# Altium footprint library Tomra_Altium_Footprints.PcbLib: 43 footprints (part 2 of 3)
Each footprint in its own frame and in the unit in brackets; x right, y up, seen from the top. Pads: shape width x height; smd on the part's side, far side on the other; paste and mask are expansions set on the pad; w line width, h text height; cw(c..) or ccw(c..) is an arc to the next point about the centre after c.
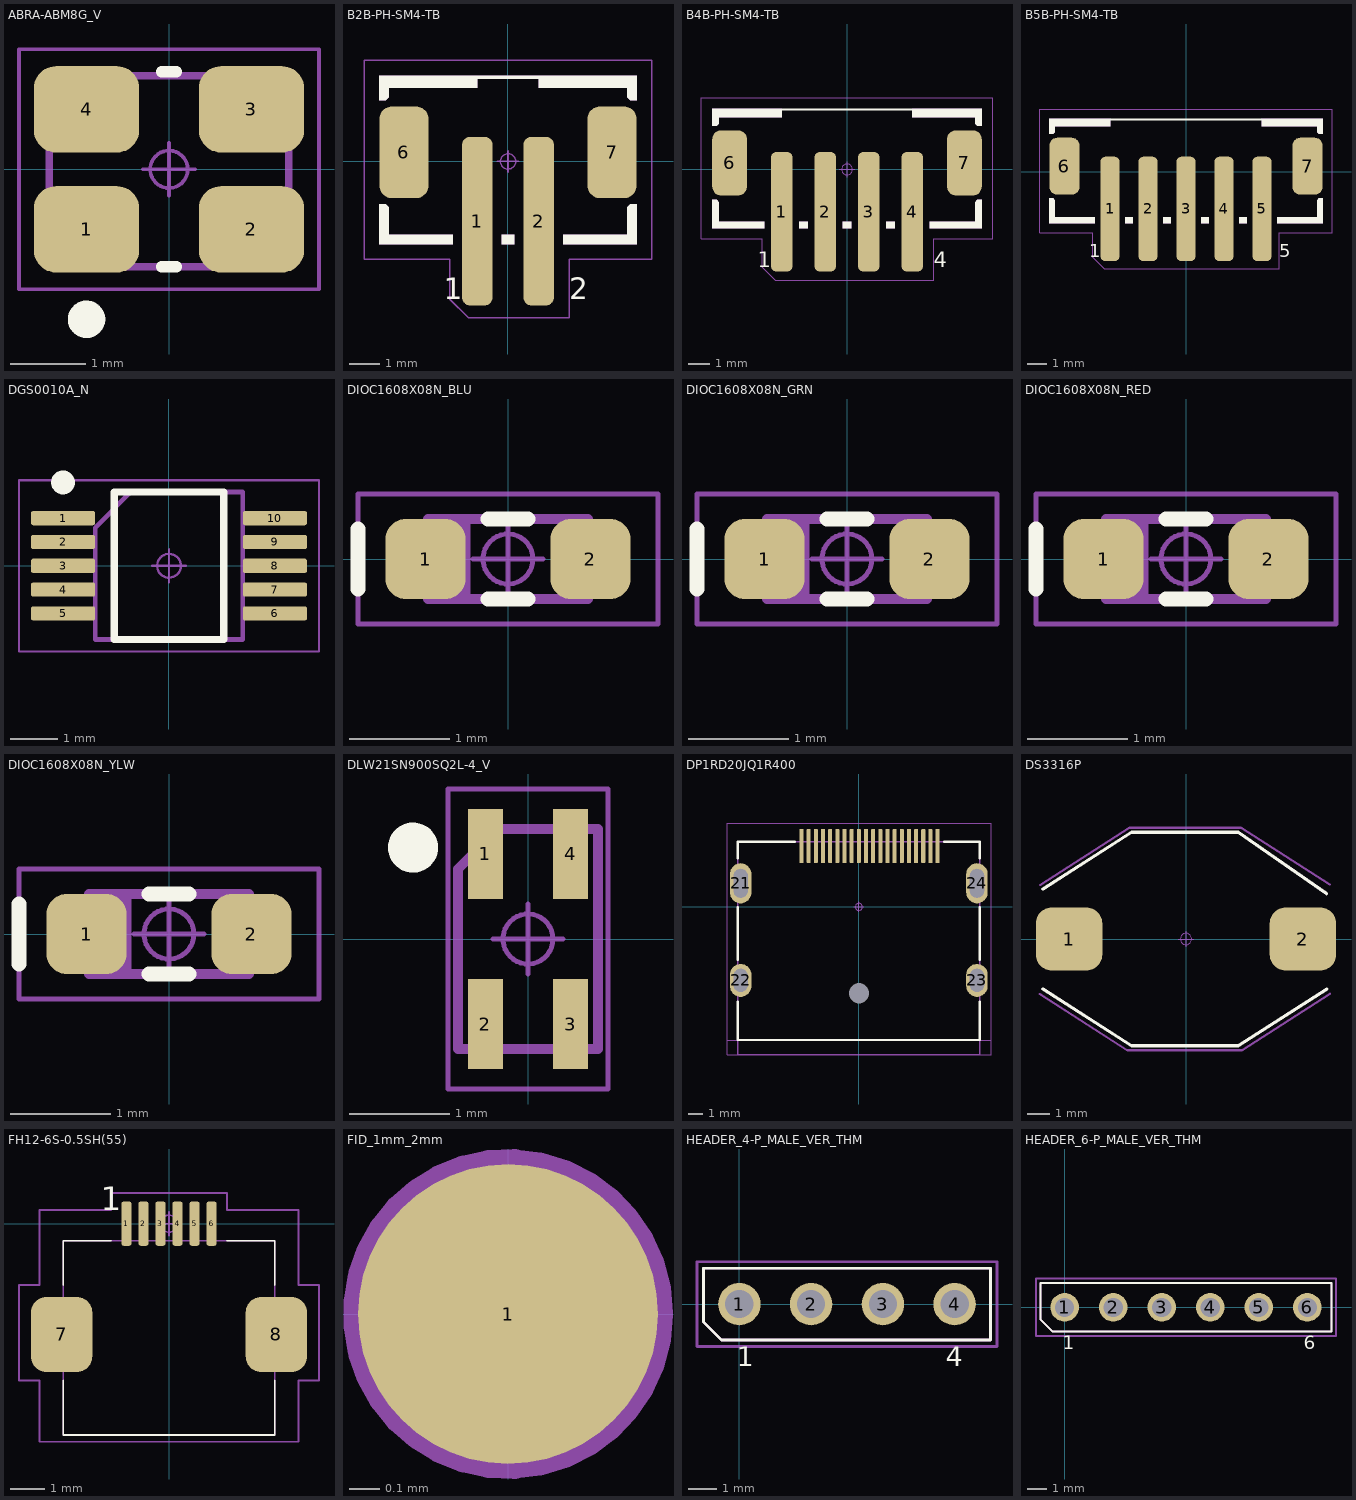
[diagram p1: the footprints below, top view; thin cyan lines are the x and y axes]

## ABRA-ABM8G_V [mm] "SMD, 4-Leads, Body 2.5x3.2mm"
height 0.8
pads (4):
  rrect50% 1.4x1.15 smd: 1(-1.1,-0.8) 2(1.1,-0.8) 3(1.1,0.8) 4(-1.1,0.8)
Top Overlay:
  circle w0.25: c-1.1,-2 r0.125
  lines w0.15: -0.1,-1.3 0.1,-1.3 ; -0.1,1.3 0.1,1.3
Mechanical 13:
  lines w0.1: -1.6,-0.5 -1.6,1.25 1.6,1.25 1.6,-1.3 -0.8,-1.3 -1.6,-0.5
  text ".Designator" at -3.4,-0.6 h1.5
Mechanical 15:
  circle w0.05: c0,0 r0.25
  lines w0.05: -0.35,0 0.35,0 ; 0,-0.35 0,0.35 ; -2,-1.6 -2,1.6 2,1.6 2,-1.6 -2,-1.6
3D body "ABM8G.STEP": height 0.99, standoff 0, extent -1.6,-1.245 1.6,1.244

## B2B-PH-SM4-TB [mm] "JST KR-Series, Vertical, 2-pin, 2mm pitch"
height 7
pads (4):
  rrect50% 1x5.5 smd: 1(-1,-1.95) 2(1,-1.95)
  rrect50% 1.6x3 smd: 6(-3.4,0.3) 7(3.4,0.3)
Top Overlay:
  region: 4.2,-1.4 4,-1.4 3.9,-1.5 3.9,-2.4 1.8,-2.4 1.8,-2.7 4.2,-2.7
  region: 1,2.8 4.2,2.8 4.2,2 4,2 3.9,2.1 3.9,2.4 1,2.4
  region: -1,2.8 -4.2,2.8 -4.2,2 -4,2 -3.9,2.1 -3.9,2.4 -1,2.4
  region: -0.2,-2.4 0.2,-2.4 0.2,-2.7 -0.2,-2.7
  region: -4.2,-1.4 -4,-1.4 -3.9,-1.5 -3.9,-2.4 -1.8,-2.4 -1.8,-2.7 -4.2,-2.7
  lines w0.1: -1,2.75 1.5,2.75
  text "1" at -2.1,-4.5 h0.7
  text "2" at 2,-4.5 h0.7
Mechanical 13:
  region: 1,2.8 4.2,2.8 4.2,2 4,2 3.9,2.1 3.9,2.4 1,2.4
  region: 4.2,-1.4 4,-1.4 3.9,-1.5 3.9,-2.4 1.8,-2.4 1.8,-2.7 4.2,-2.7
  region: -1,2.8 -4.2,2.8 -4.2,2 -4,2 -3.9,2.1 -3.9,2.4 -1,2.4
  region: -4.2,-1.4 -4,-1.4 -3.9,-1.5 -3.9,-2.4 -1.8,-2.4 -1.8,-2.7 -4.2,-2.7
  region: -0.2,-2.4 0.2,-2.4 0.2,-2.7 -0.2,-2.7
  lines w0.05: -1,2.775 1.2,2.775
  text ".Designator" at -3.4,-0.6 h1.5
  text "1" at -2.1,-4.5 h0.7
  text "2" at 2,-4.5 h0.7
Mechanical 15:
  circle w0.05: c0,0 r0.25
  lines w0.05: -0.35,0 0.35,0 ; 0,-0.35 0,0.35 ; -4.7,-3.2 -4.7,3.3 4.7,3.3 4.7,-3.2 2,-3.2 2,-5.1 -1.3,-5.1 -1.9,-4.5 -1.9,-3.2 -4.7,-3.2
3D body "B2B-PH-SM4-TB.STEP": height 6.6, standoff 0, extent -4,-4.275 3.95,2.725

## B4B-PH-SM4-TB [mm] "JST KR-Series, Vertical, 4-pin, 2mm pitch"
height 7
pads (6):
  rrect50% 1x5.5 smd: 1(-3,-1.95) 2(-1,-1.95) 3(1,-1.95) 4(3,-1.95)
  rrect50% 1.6x3 smd: 6(-5.4,0.3) 7(5.4,0.3)
Top Overlay:
  region: 1.8,-2.4 2.2,-2.4 2.2,-2.7 1.8,-2.7
  region: 6.2,-1.4 6,-1.4 5.9,-1.5 5.9,-2.4 3.8,-2.4 3.8,-2.7 6.2,-2.7
  region: 3,2.8 6.2,2.8 6.2,2 6,2 5.9,2.1 5.9,2.4 3,2.4
  region: -3,2.8 -6.2,2.8 -6.2,2 -6,2 -5.9,2.1 -5.9,2.4 -3,2.4
  region: -2.2,-2.4 -1.8,-2.4 -1.8,-2.7 -2.2,-2.7
  region: -6.2,-1.4 -6,-1.4 -5.9,-1.5 -5.9,-2.4 -3.8,-2.4 -3.8,-2.7 -6.2,-2.7
  region: -0.2,-2.4 0.2,-2.4 0.2,-2.7 -0.2,-2.7
  lines w0.1: -3,2.75 3.5,2.75
  text "1" at -4.1,-4.5 h0.7
  text "4" at 4,-4.5 h0.7
Mechanical 13:
  region: 3,2.8 6.2,2.8 6.2,2 6,2 5.9,2.1 5.9,2.4 3,2.4
  region: 6.2,-1.4 6,-1.4 5.9,-1.5 5.9,-2.4 3.8,-2.4 3.8,-2.7 6.2,-2.7
  region: -3,2.8 -6.2,2.8 -6.2,2 -6,2 -5.9,2.1 -5.9,2.4 -3,2.4
  region: -6.2,-1.4 -6,-1.4 -5.9,-1.5 -5.9,-2.4 -3.8,-2.4 -3.8,-2.7 -6.2,-2.7
  region: 1.8,-2.4 2.2,-2.4 2.2,-2.7 1.8,-2.7
  region: -0.2,-2.4 0.2,-2.4 0.2,-2.7 -0.2,-2.7
  region: -2.2,-2.4 -1.8,-2.4 -1.8,-2.7 -2.2,-2.7
  lines w0.05: -3,2.775 3.2,2.775
  text ".Designator" at -3.4,-0.6 h1.5
  text "1" at -4.1,-4.5 h0.7
  text "4" at 4,-4.5 h0.7
Mechanical 15:
  circle w0.05: c0,0 r0.25
  lines w0.05: -0.35,0 0.35,0 ; 0,-0.35 0,0.35 ; -6.7,-3.2 -6.7,3.3 6.7,3.3 6.7,-3.2 4,-3.2 4,-5.1 -3.3,-5.1 -3.9,-4.5 -3.9,-3.2 -6.7,-3.2
3D body "B4B-PH-SM4-TB.STEP": height 6.6, standoff 0, extent -5.95,-4.3 6,2.7

## B5B-PH-SM4-TB [mm] "JST KR-Series, Vertical, 5-pin, 2mm pitch"
height 7
pads (7):
  rrect50% 1x5.5 smd: 1(-4,-1.95) 2(-2,-1.95) 3(0,-1.95) 4(2,-1.95) 5(4,-1.95)
  rrect50% 1.6x3 smd: 6(-6.4,0.3) 7(6.4,0.3)
Top Overlay:
  region: 0.8,-2.4 1.2,-2.4 1.2,-2.7 0.8,-2.7
  region: 7.2,-1.4 7,-1.4 6.9,-1.5 6.9,-2.4 4.8,-2.4 4.8,-2.7 7.2,-2.7
  region: 4,2.8 7.2,2.8 7.2,2 7,2 6.9,2.1 6.9,2.4 4,2.4
  region: 2.8,-2.4 3.2,-2.4 3.2,-2.7 2.8,-2.7
  region: -4,2.8 -7.2,2.8 -7.2,2 -7,2 -6.9,2.1 -6.9,2.4 -4,2.4
  region: -3.2,-2.4 -2.8,-2.4 -2.8,-2.7 -3.2,-2.7
  region: -7.2,-1.4 -7,-1.4 -6.9,-1.5 -6.9,-2.4 -4.8,-2.4 -4.8,-2.7 -7.2,-2.7
  region: -1.2,-2.4 -0.8,-2.4 -0.8,-2.7 -1.2,-2.7
  lines w0.1: -4,2.75 6.9,2.75
  text "5" at 4.9,-4.5 h0.7
  text "1" at -5.1,-4.5 h0.7
Mechanical 13:
  region: 4,2.8 7.2,2.8 7.2,2 7,2 6.9,2.1 6.9,2.4 4,2.4
  region: 7.2,-1.4 7,-1.4 6.9,-1.5 6.9,-2.4 4.8,-2.4 4.8,-2.7 7.2,-2.7
  region: -4,2.8 -7.2,2.8 -7.2,2 -7,2 -6.9,2.1 -6.9,2.4 -4,2.4
  region: -7.2,-1.4 -7,-1.4 -6.9,-1.5 -6.9,-2.4 -4.8,-2.4 -4.8,-2.7 -7.2,-2.7
  region: 2.8,-2.4 3.2,-2.4 3.2,-2.7 2.8,-2.7
  region: 0.8,-2.4 1.2,-2.4 1.2,-2.7 0.8,-2.7
  region: -1.2,-2.4 -0.8,-2.4 -0.8,-2.7 -1.2,-2.7
  region: -3.2,-2.4 -2.8,-2.4 -2.8,-2.7 -3.2,-2.7
  lines w0.05: -4,2.775 6.9,2.775
  text "5" at 4.9,-4.5 h0.7
  text "1" at -5.1,-4.5 h0.7
  text ".Designator" at -3.4,-0.6 h1.5
Mechanical 15:
  circle w0.05: c0,0 r0.25
  lines w0.05: -0.35,0 0.35,0 ; 0,-0.35 0,0.35 ; -7.7,-3.2 -7.7,3.3 7.7,3.3 7.7,-3.2 4.9,-3.2 4.9,-5.1 -4.3,-5.1 -4.9,-4.5 -4.9,-3.2 -7.7,-3.2
3D body "B5B-PH-SM4-TB.STEP": height 6.6, standoff 0, extent -6.95,-4.275 7,2.725

## DGS0010A_N [mm] "SOP, 10-Leads, Body 3.1x3.1mm, Pitch 0.5mm, IPC Medium Density"
height 1.1
pads (10):
  rrect33% 1.35x0.3 smd: 1(-2.225,1) 2(-2.225,0.5) 3(-2.225,0) 4(-2.225,-0.5) 5(-2.225,-1) 6(2.225,-1) 7(2.225,-0.5) 8(2.225,0) 9(2.225,0.5) 10(2.225,1)
Top Overlay:
  circle w0.25: c-2.225,1.75 r0.125
  lines w0.15: -1.15,-1.55 1.15,-1.55 1.15,1.55 -1.15,1.55 -1.15,-1.55
Mechanical 13:
  lines w0.1: -1.55,-1.55 1.55,-1.55 1.55,1.55 -0.8,1.55 -1.55,0.8 -1.55,-1.55
  text ".Designator" at -3.4,-0.6 h1.5
Mechanical 15:
  circle w0.05: c0,0 r0.25
  lines w0.05: -0.35,0 0.35,0 ; 0,-0.35 0,0.35 ; -3.15,-1.8 3.15,-1.8 3.15,1.8 -3.15,1.8 -3.15,-1.8
3D body "DGS0010AakaMUB10A.stp": height 0.94, standoff -0.02, extent -2.451,-1.499 2.451,1.499

## DIOC1608X08N_BLU [mm] "Chip Diode, 2-Leads, Body 1.60x0.80mm, IPC Medium Density"
height 0.8
pads (2):
  rrect50% 0.8x0.8 smd: 1(-0.825,0) 2(0.825,0)
Top Overlay:
  lines w0.15: -1.5,-0.3 -1.5,0.3 ; -0.2,-0.4 0.2,-0.4 ; -0.2,0.4 0.2,0.4
Mechanical 13:
  region: -0.6,0
  region: -0.6,-0.75
  region: -0.8,-0.4 -0.375,-0.4 -0.375,0.4 -0.8,0.4
  lines w0.1: -0.6,-0.4 -0.6,0.4 ; -0.8,-0.4 -0.8,0.4 ; -0.8,-0.4 0.8,-0.4 0.8,0.4 -0.8,0.4 ; -0.8,-0.4 -0.8,0.4
  text ".Designator" at -3.4,-0.6 h1.5
Mechanical 15:
  circle w0.05: c0,0 r0.25
  lines w0.05: -0.35,0 0.35,0 ; 0,-0.35 0,0.35 ; -1.5,-0.65 1.5,-0.65 1.5,0.65 -1.5,0.65 -1.5,-0.65
3D body "User Library-led_0603 (3).step": height 0.6, standoff 0, extent -0.81,-0.4 0.81,0.4

## DIOC1608X08N_GRN [mm] "Chip Diode, 2-Leads, Body 1.60x0.80mm, IPC Medium Density"
height 0.8
pads (2):
  rrect50% 0.8x0.8 smd: 1(-0.825,0) 2(0.825,0)
Top Overlay:
  lines w0.15: -1.5,-0.3 -1.5,0.3 ; -0.2,-0.4 0.2,-0.4 ; -0.2,0.4 0.2,0.4
Mechanical 13:
  region: -0.6,0
  region: -0.6,-0.75
  region: -0.8,-0.4 -0.375,-0.4 -0.375,0.4 -0.8,0.4
  lines w0.1: -0.6,-0.4 -0.6,0.4 ; -0.8,-0.4 -0.8,0.4 ; -0.8,-0.4 0.8,-0.4 0.8,0.4 -0.8,0.4 ; -0.8,-0.4 -0.8,0.4
  text ".Designator" at -3.4,-0.6 h1.5
Mechanical 15:
  circle w0.05: c0,0 r0.25
  lines w0.05: -0.35,0 0.35,0 ; 0,-0.35 0,0.35 ; -1.5,-0.65 1.5,-0.65 1.5,0.65 -1.5,0.65 -1.5,-0.65
3D body "User Library-led_0603 (1).step": height 0.6, standoff 0, extent -0.81,-0.4 0.81,0.4

## DIOC1608X08N_RED [mm] "Chip Diode, 2-Leads, Body 1.60x0.80mm, IPC Medium Density"
height 0.8
pads (2):
  rrect50% 0.8x0.8 smd: 1(-0.825,0) 2(0.825,0)
Top Overlay:
  lines w0.15: -1.5,-0.3 -1.5,0.3 ; -0.2,-0.4 0.2,-0.4 ; -0.2,0.4 0.2,0.4
Mechanical 13:
  region: -0.6,0
  region: -0.6,-0.75
  region: -0.8,-0.4 -0.375,-0.4 -0.375,0.4 -0.8,0.4
  lines w0.1: -0.6,-0.4 -0.6,0.4 ; -0.8,-0.4 -0.8,0.4 ; -0.8,-0.4 0.8,-0.4 0.8,0.4 -0.8,0.4 ; -0.8,-0.4 -0.8,0.4
  text ".Designator" at -3.4,-0.6 h1.5
Mechanical 15:
  circle w0.05: c0,0 r0.25
  lines w0.05: -0.35,0 0.35,0 ; 0,-0.35 0,0.35 ; -1.5,-0.65 1.5,-0.65 1.5,0.65 -1.5,0.65 -1.5,-0.65
3D body "User Library-led_0603 (2).step": height 0.6, standoff 0, extent -0.81,-0.4 0.81,0.4

## DIOC1608X08N_YLW [mm] "Chip Diode, 2-Leads, Body 1.60x0.80mm, IPC Medium Density"
height 0.8
pads (2):
  rrect50% 0.8x0.8 smd: 1(-0.825,0) 2(0.825,0)
Top Overlay:
  lines w0.15: -1.5,-0.3 -1.5,0.3 ; -0.2,-0.4 0.2,-0.4 ; -0.2,0.4 0.2,0.4
Mechanical 13:
  region: -0.6,0
  region: -0.6,-0.75
  region: -0.8,-0.4 -0.375,-0.4 -0.375,0.4 -0.8,0.4
  lines w0.1: -0.6,-0.4 -0.6,0.4 ; -0.8,-0.4 -0.8,0.4 ; -0.8,-0.4 0.8,-0.4 0.8,0.4 -0.8,0.4 ; -0.8,-0.4 -0.8,0.4
  text ".Designator" at -3.4,-0.6 h1.5
Mechanical 15:
  circle w0.05: c0,0 r0.25
  lines w0.05: -0.35,0 0.35,0 ; 0,-0.35 0,0.35 ; -1.5,-0.65 1.5,-0.65 1.5,0.65 -1.5,0.65 -1.5,-0.65
3D body "User Library-led_0603.step": height 0.6, standoff 0, extent -0.81,-0.4 0.81,0.4

## DLW21SN900SQ2L-4_V [mm] "SMD, 4-Leads, Body 2.2x1.4mm"
height 1.4
pads (4):
  rect 0.35x0.9 smd: 1(-0.425,0.85) 2(-0.425,-0.85) 3(0.425,-0.85) 4(0.425,0.85)
Top Overlay:
  circle w0.25: c-1.15,0.914 r0.125
Mechanical 13:
  lines w0.1: -0.7,-1.1 0.7,-1.1 0.7,1.1 -0.3,1.1 -0.7,0.7 -0.7,-1.1
  text ".Designator" at 0.65,-3.3 h1.5
Mechanical 15:
  circle w0.05: c0,0 r0.25
  lines w0.05: -0.35,0 0.35,0 ; 0,-0.35 0,0.35 ; -0.8,-1.5 -0.8,1.5 0.8,1.5 0.8,-1.5 -0.8,-1.5
3D body: height 1.4, standoff 0, extent -0.7,-1.1 0.7,1.1

## DP1RD20JQ1R400 [mm] "20-P DISPLAYPORT"
height 6.2
pads (25):
  rrect50% 0.28x2.4 smd: 1(5.5,4.25) 2(5,4.25) 3(4.5,4.25) 4(4,4.25) 5(3.5,4.25) 6(3,4.25) 7(2.5,4.25) 8(2,4.25) 9(1.5,4.25) 10(1,4.25) 11(0.5,4.25) 12(0,4.25) 13(-0.5,4.25) 14(-1,4.25) 15(-1.5,4.25) 16(-2,4.25) 17(-2.5,4.25) 18(-3,4.25) 19(-3.5,4.25) 20(-4,4.25)
  oval 1.5x2.8 hole 1 slot 2 at 90 deg: 21(-8.25,1.65) 24(8.25,1.65)
  oval 1.5x2.3 hole 1 slot 1.6 at 90 deg: 22(-8.25,-5.13) 23(8.25,-5.13)
  round 0 hole 1.4 unplated: 25(0,-6.03)
Top Overlay:
  lines w0.15: -8.45,-6.6 -8.45,-9.3 8.45,-9.3 ; -8.45,-3.7 -8.45,0 ; -8.45,3.4 -8.45,4.55 -4.45,4.55 ; 5.95,4.55 8.45,4.55 8.45,3.4 ; 8.45,-3.7 8.45,0 ; 8.45,-9.3 8.45,-6.6 8.45,-9.3
Mechanical 13:
  rectangle: 5.4,4.55 5.6,5
  rectangle: 4.9,4.55 5.1,5
  rectangle: 4.4,4.55 4.6,5
  rectangle: 3.9,4.55 4.1,5
  rectangle: 3.4,4.55 3.6,5
  rectangle: 2.9,4.55 3.1,5
  rectangle: 2.4,4.55 2.6,5
  rectangle: 1.9,4.55 2.1,5
  rectangle: 1.4,4.55 1.6,5
  rectangle: 0.9,4.55 1.1,5
  rectangle: 0.4,4.55 0.6,5
  rectangle: -0.1,4.55 0.1,5
  rectangle: -0.6,4.55 -0.4,5
  rectangle: -1.1,4.55 -0.9,5
  rectangle: -1.6,4.55 -1.4,5
  rectangle: -2.1,4.55 -1.9,5
  rectangle: -2.6,4.55 -2.4,5
  rectangle: -3.1,4.55 -2.9,5
  rectangle: -3.6,4.55 -3.4,5
  rectangle: -4.1,4.55 -3.9,5
  rectangle: -8.45,-5.63 -8.05,-4.63
  rectangle: 8.05,-5.63 8.45,-4.63
  rectangle: 8.05,0.9 8.45,2.4
  rectangle: -8.45,0.9 -8.05,2.4
  region: -11.3,1.1
  region: -8.4,2.3
  lines w0.1: -8.45,-9.3 8.45,-9.3 ; -8.45,-10.33 8.45,-10.33 8.45,4.55 -8.45,4.55 -8.45,-10.33
  text "1" at 5.95,2.75 h0.7
  text ".Designator" at -3.4,-0.6 h1.5
Mechanical 15:
  circle w0.05: c0,0 r0.25
  lines w0.05: -9.175,-9.3 9.24,-9.3 ; -0.35,0 0.35,0 ; 0,-0.35 0,0.35 ; -9.175,-10.33 9.24,-10.33 9.24,5.85 -9.175,5.85 -9.175,-10.33
  text "PCB Edge" at -2.8,-8.6 h0.7
3D body "17080238-.stp": height 6.65, standoff -2.1, extent -8.893,-10.34 8.893,4.55

## DS3316P [mm] "Shielded inductor"
pads (2):
  rrect50% 2.92x2.79 smd: 1(-5.145,0) 2(5.145,0)
Top Overlay:
  lines w0.15: -2.4,-4.7 -6.3,-2.2 -2.4,-4.7 ; -2.4,-4.7 2.3,-4.7 ; -2.4,-4.7 2.3,-4.7 ; -2.4,4.7 2.3,4.7 ; -2.4,4.7 -6.3,2.2 -2.4,4.7 ; -2.4,4.7 2.3,4.7 ; 2.3,-4.7 6.2,-2.2 2.3,-4.7 ; 2.3,4.7 6.186,2 2.3,4.7
Mechanical 13:
  lines w0.1: -1.98,-4.7 1.98,-4.7 ; -1.98,4.7 1.98,4.7
  text ".Designator" at -3.4,-0.6 h1.5
Mechanical 15:
  circle w0.05: c0,0 r0.25
  lines w0.05: -0.35,0 0.35,0 ; 0,-0.35 0,0.35
  lines w0.1: -6.442,-2.422 -2.576,-4.9 2.464,-4.9 6.339,-2.416 ; -6.414,2.378 -2.48,4.9 2.42,4.9 6.326,2.396
3D body "Coilcraft-DS3316P.step": height 5.03, standoff -0.05, extent -6.187,-4.7 6.186,4.7

## FH12-6S-0.5SH(55) [mm] "CON FFC BOTTOM 6-P VER SMD"
height 2.2
pads (8):
  rrect50% 0.3x1.3 smd: 1(-1.25,0) 2(-0.75,0) 3(-0.25,0) 4(0.25,0) 5(0.75,0) 6(1.25,0)
  rrect50% 1.8x2.2 smd: 7(-3.15,-3.25) 8(3.15,-3.25)
Top Overlay:
  lines w0.05: -3.1,-4.6 -3.1,-6.2 3.1,-6.2 3.1,-4.6 ; -3.1,-1.8 -3.1,-0.5 -1.7,-0.5 ; 1.7,-0.5 3.1,-0.5 3.1,-1.8
  text "1" at -2,0.4 h0.7
Mechanical 13:
  rectangle: 1.15,-0.5 1.35,0.3
  rectangle: 0.65,-0.5 0.85,0.3
  rectangle: 0.15,-0.5 0.35,0.3
  rectangle: -0.35,-0.5 -0.15,0.3
  rectangle: -0.85,-0.5 -0.65,0.3
  rectangle: -1.35,-0.5 -1.15,0.3
  rectangle: 3.1,-3.7 3.6,-2.5
  rectangle: -3.6,-3.8 -3.1,-2.6
  lines w0.05: 3.1,-1.8 3.1,-0.5 -3.1,-0.5 -3.1,-1.3 -3.1,-6.2 3.1,-6.2 3.1,-1.7
  text ".Designator" at -3.5,-3.8 h1.5
  text "1" at -2,0.4 h0.7
Mechanical 15:
  circle w0.05: c0,0 r0.25
  lines w0.05: -0.35,0 0.35,0 ; 0,-0.35 0,0.35 ; -4.4,-4.6 -3.8,-4.6 -3.8,-6.4 3.8,-6.4 3.8,-4.6 4.4,-4.6 4.4,-1.8 3.8,-1.8 3.8,0.4 1.7,0.4 1.7,0.9 -1.7,0.9 -1.7,0.4 -3.8,0.4 -3.8,-1.8 -4.4,-1.8 -4.4,-4.6
3D body "FH12-6S-0.5SH.stp": height 2.04, standoff -0.06, extent -3.55,-6.2 3.55,0.2

## FID_1mm_2mm [mm] "Fiducial 1mm pad, 2mm paste mask opening"
height 0.1
pads (1):
  round 1 smd paste-0.5 mask+0.5: 1(0,0)
Mechanical 13:
  circle w0.1: c0,0 r0.5
  text ".Designator" at -3.4,-0.6 h1.5
Mechanical 15:
  circle w0.05: c0,0 r0.25
  lines w0.05: -0.35,0 0.35,0 ; 0,-0.35 0,0.35

## HEADER_4-P_MALE_VER_THM [mm]
height 9
pads (4):
  round 1.5 / inner round 1.524 / far side round 1.4 hole 1 paste+0 mask+0: 1(0,0) 2(2.54,0) 3(5.08,0) 4(7.62,0)
Top Overlay:
  lines w0.1: -1.27,-0.635 -1.27,1.27 8.89,1.27 8.89,-1.27 -0.635,-1.27 -1.27,-0.635
  text "4" at 7.3,-2.2 h0.7
  text "1" at -0.1,-2.2 h0.7
Mechanical 13:
  circle w0.5: c0,-0.006 r0.2
  circle w0.5: c2.54,-0.006 r0.2
  circle w0.5: c5.08,-0.005 r0.2
  circle w0.5: c7.62,-0.006 r0.2
  circle w0.5: c7.62,-0.006 r0.2
  lines w0.1: -1.27,-0.635 -1.27,1.27 8.89,1.27 8.89,-1.27 -0.635,-1.27 -1.27,-0.635
  text "4" at 7.3,-2.2 h0.7
  text "1" at -0.1,-2.2 h0.7
  text ".Designator" at 0.2,-0.7 h1.5
Mechanical 15:
  circle w0.05: c0,0 r0.25
  lines w0.05: -0.35,0 0.35,0 ; 0,-0.35 0,0.35
  lines w0.1: 9.12,-1.5 -1.5,-1.5 -1.5,1.5 9.12,1.5 9.12,-1.48
3D body "022284041.stp": height 10.47, standoff -2.99, extent -1.28,-1.244 8.88,1.245

## HEADER_6-P_MALE_VER_THM [mm]
height 9
pads (6):
  round 1.5 / inner round 1.524 / far side round 1.4 hole 1 paste+0 mask+0: 1(0,0) 2(2.54,0) 3(5.08,0) 4(7.62,0) 5(10.16,0) 6(12.7,0)
Top Overlay:
  lines w0.1: -1.27,-0.635 -0.635,-1.27 13.97,-1.27 13.97,1.27 -1.27,1.27 -1.27,-0.635
  text "1" at -0.1,-2.2 h0.7
  text "6" at 12.5,-2.2 h0.7
Mechanical 13:
  circle w0.5: c12.7,0 r0.2
  circle w0.5: c10.16,-0.006 r0.2
  circle w0.5: c7.62,-0.006 r0.2
  circle w0.5: c7.62,-0.006 r0.2
  circle w0.5: c5.08,-0.005 r0.2
  circle w0.5: c2.54,-0.006 r0.2
  circle w0.5: c0,-0.006 r0.2
  lines w0.1: -1.27,-0.635 -0.635,-1.27 13.97,-1.27 13.97,1.27 -1.27,1.27 -1.27,-0.635
  text ".Designator" at 2.74,-0.635 h1.5
  text "1" at -0.1,-2.2 h0.7
  text "6" at 12.5,-2.2 h0.7
Mechanical 15:
  circle w0.05: c0,0 r0.25
  lines w0.05: -0.35,0 0.35,0 ; 0,-0.35 0,0.35
  lines w0.1: -1.5,-1.5 14.2,-1.5 14.2,1.5 -1.5,1.5 -1.5,-1.5
3D body "022284061.stp": height 10.47, standoff -2.99, extent -1.275,-1.25 13.965,1.239